# Altium schematic symbol library fengzhuang.SchLib: 13 symbols
Pins are listed as number, name and electrical type; pins without a type are passive.

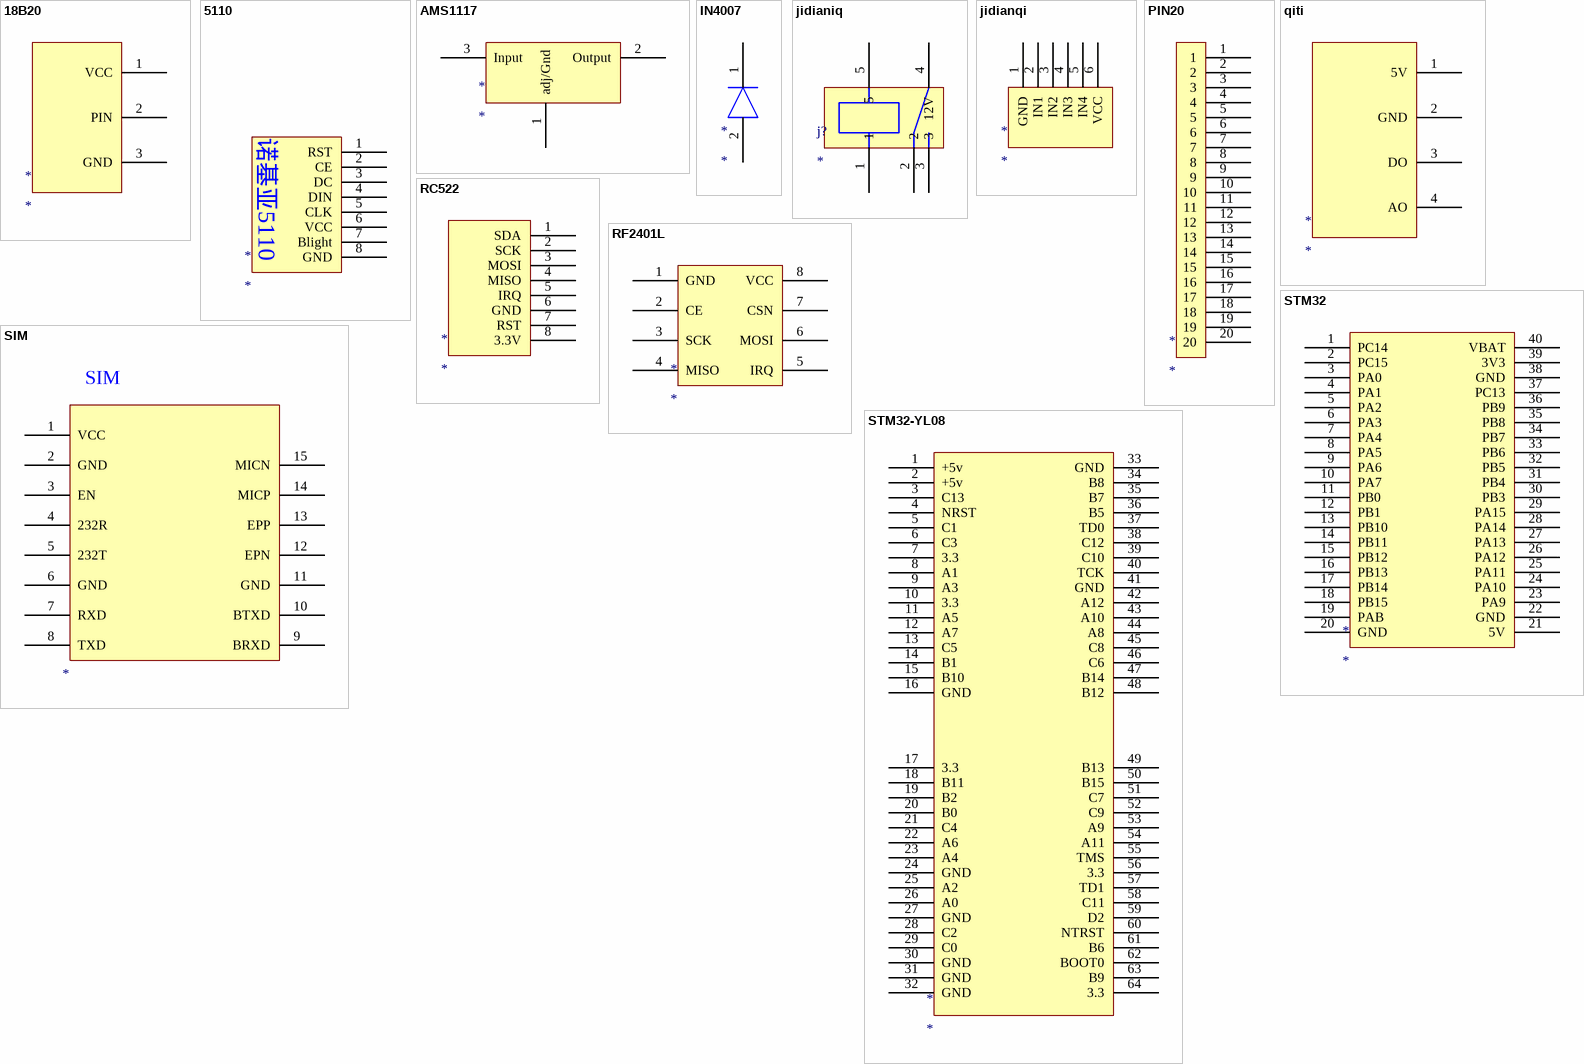
[diagram p0: symbols 18B20 to STM32-YL08]

## 18B20
designator *
footprint 18B20
pins: 1 VCC, 2 PIN, 3 GND

## 5110
designator *
footprint 5110
pins: 1 RST, 2 CE, 3 DC, 4 DIN, 5 CLK, 6 VCC, 7 Blight, 8 GND
text: 诺基亚5110

## AMS1117
designator *
footprint AMS1117
pins: 1 adj/Gnd, 2 Output, 3 Input

## IN4007
designator *
footprint IN4007_1
pins: 1, 2

## jidianiq
designator j?
footprint jidianqi
pins: 1, 2, 3, 4 12V, 5

## jidianqi
designator *
footprint jidianqimokuai
pins: 1 GND, 2 IN1, 3 IN2, 4 IN3, 5 IN4, 6 VCC

## PIN20
designator *
footprint PIN20
pins: 1, 2, 3, 4, 5, 6, 7, 8, 9, 10, 11, 12, 13, 14, 15, 16, 17, 18, 19, 20

## qiti
designator *
footprint qiti
pins: 1 5V, 2 GND, 3 DO, 4 AO

## RC522
designator *
footprint RC522
pins: 1 SDA, 2 SCK, 3 MOSI, 4 MISO, 5 IRQ, 6 GND, 7 RST, 8 3.3V

## RF2401L
designator *
footprint RF2401L
pins: 1 GND, 2 CE, 3 SCK, 4 MISO, 5 IRQ, 6 MOSI, 7 CSN, 8 VCC
1 alternate drawing of the same symbol

## SIM
designator ?
footprint SIM
pins: 1 VCC, 2 GND, 3 EN, 4 232R, 5 232T, 6 GND, 7 RXD, 8 TXD, 9 BRXD, 10 BTXD, 11 GND, 12 EPN, 13 EPP, 14 MICP, 15 MICN

## STM32
designator *
footprint STN32
pins: 1 PC14, 2 PC15, 3 PA0, 4 PA1, 5 PA2, 6 PA3, 7 PA4, 8 PA5, 9 PA6, 10 PA7, 11 PB0, 12 PB1, 13 PB10, 14 PB11, 15 PB12, 16 PB13, 17 PB14, 18 PB15, 19 PAB, 20 GND, 21 5V, 22 GND, 23 PA9, 24 PA10, 25 PA11, 26 PA12, 27 PA13, 28 PA14, 29 PA15, 30 PB3, 31 PB4, 32 PB5, 33 PB6, 34 PB7, 35 PB8, 36 PB9, 37 PC13, 38 GND, 39 3V3, 40 VBAT

## STM32-YL08
designator *
footprint STM32-YL08
pins: 1 +5v, 2 +5v, 3 C13, 4 NRST, 5 C1, 6 C3, 7 3.3, 8 A1, 9 A3, 10 3.3, 11 A5, 12 A7, 13 C5, 14 B1, 15 B10, 16 GND, 17 3.3, 18 B11, 19 B2, 20 B0, 21 C4, 22 A6, 23 A4, 24 GND, 25 A2, 26 A0, 27 GND, 28 C2, 29 C0, 30 GND, 31 GND, 32 GND, 33 GND, 34 B8, 35 B7, 36 B5, 37 TD0, 38 C12, 39 C10, 40 TCK, 41 GND, 42 A12, 43 A10, 44 A8, 45 C8, 46 C6, 47 B14, 48 B12, 49 B13, 50 B15, 51 C7, 52 C9, 53 A9, 54 A11, 55 TMS, 56 3.3, 57 TD1, 58 C11, 59 D2, 60 NTRST, 61 B6, 62 BOOT0, 63 B9, 64 3.3